# Altium footprint library PCB_Lib.PcbLib: 301 footprints (part 7 of 19)
Each footprint in its own frame and in the unit in brackets; x right, y up, seen from the top. Pads: shape width x height; smd on the part's side, far side on the other; paste and mask are expansions set on the pad; w line width, h text height; cw(c..) or ccw(c..) is an arc to the next point about the centre after c.
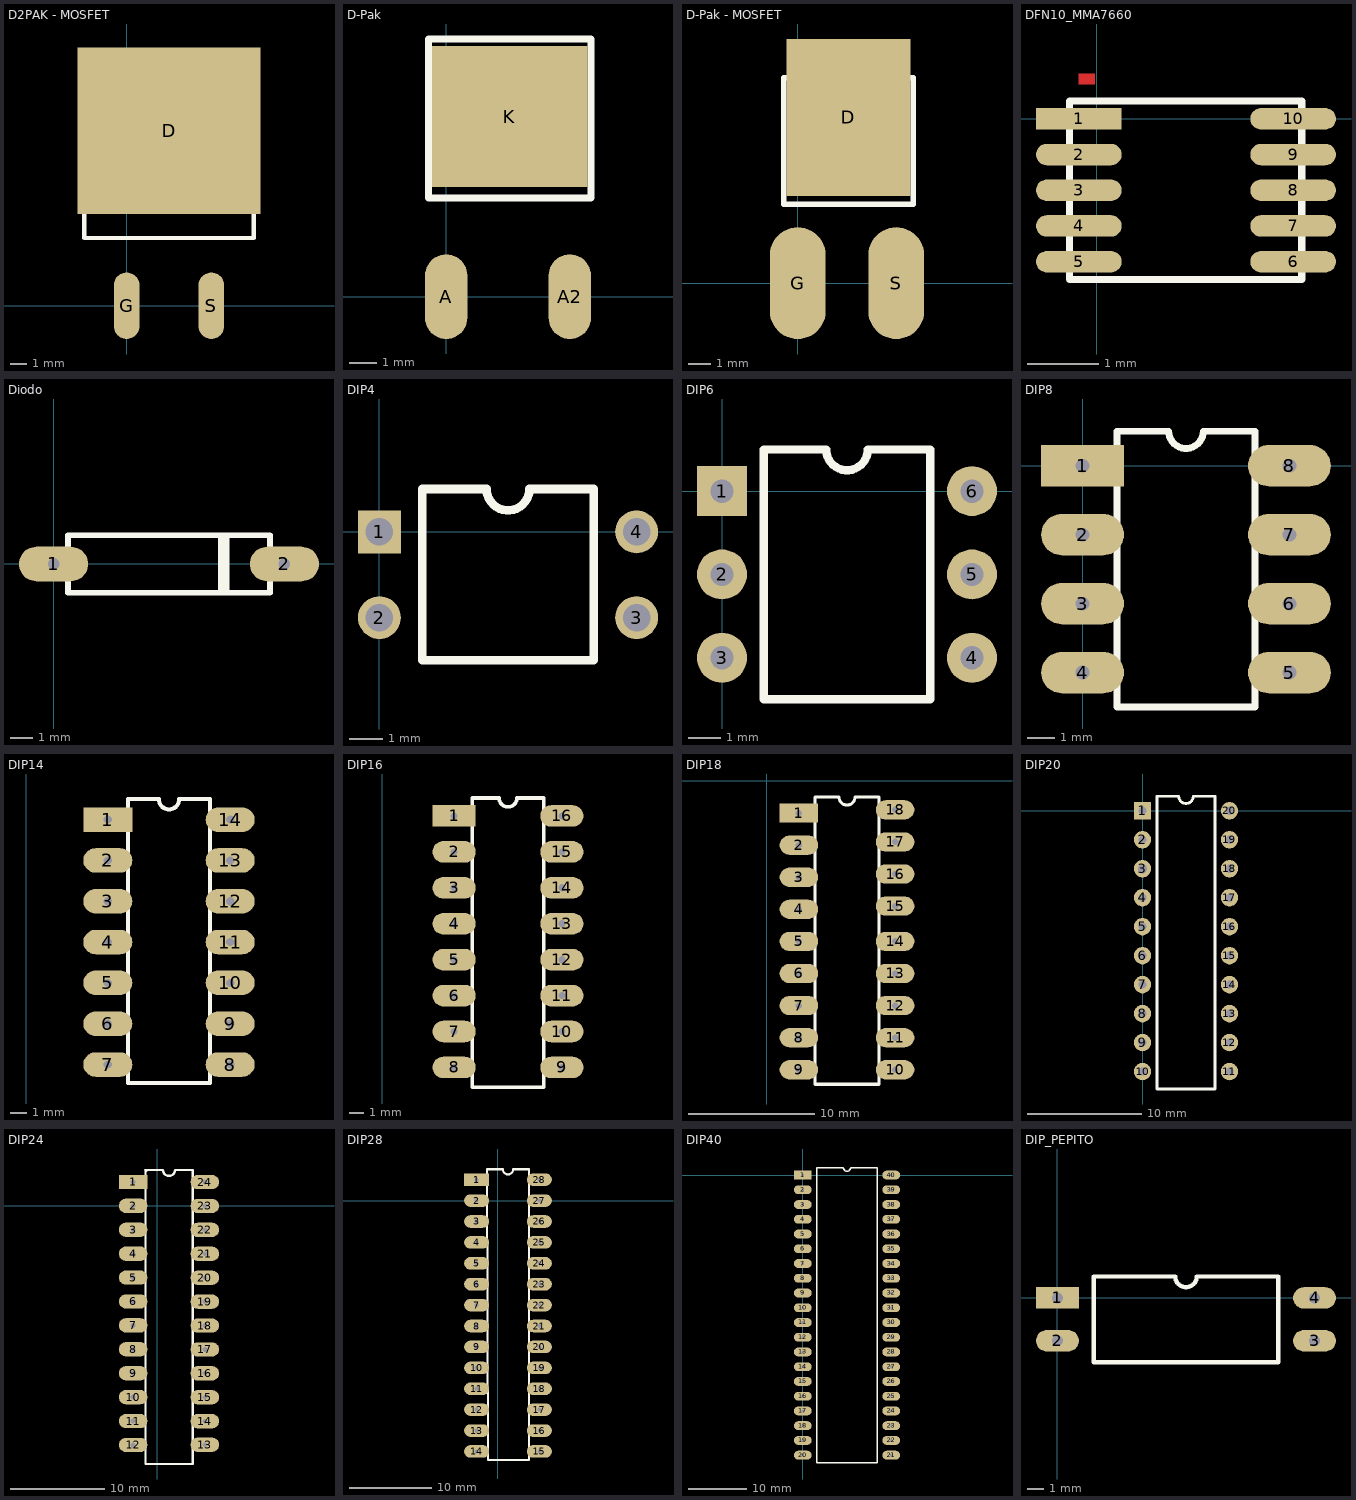
[diagram p6: the footprints below, top view; thin cyan lines are the x and y axes]

## D2PAK - MOSFET [mm] "TO220-superficie"
pads (3):
  rect 11x10 smd: D(2.54,10.5)
  oval 1.524x4 smd: G(0,0) S(5.08,0)
Top Overlay:
  lines w0.254: -2.54,4.064 7.62,4.064 7.62,13.081 -2.54,13.081 -2.54,4.064

## D-Pak [mil]
pads (3):
  oval 60x120 smd: A(0,0) A2(175,0)
  rect 220x200 smd: K(90,255)
Top Overlay:
  lines w10: -25,140 205,140 205,365 -25,365 -25,140

## D-Pak - MOSFET [mil]
pads (3):
  rect 220x278.74 smd: D(90,294.37)
  oval 99.37x198.74 smd: G(0,0) S(175,0)
Top Overlay:
  lines w10: -25,140 -25,365 205,365 205,140 -25,140

## DFN10_MMA7660 [mm]
pads (10):
  rect 1.2x0.3 smd: 1(-0.25,0)
  oval 1.2x0.3 smd: 2(-0.25,-0.5) 3(-0.25,-1) 4(-0.25,-1.5) 5(-0.25,-2) 6(2.75,-2) 7(2.75,-1.5) 8(2.75,-1) 9(2.75,-0.5) 10(2.75,0)
Top Layer:
  rectangle: -0.254,0.483 -0.025,0.635
Top Overlay:
  lines w0.1: 0.864,0.25 2.87,0.25 2.87,-2.25 -0.381,-2.25 -0.381,0.25 1.125,0.25

## Diodo [mil] "Diodo"
pads (2):
  oval 120x60 hole 20: 1(0,0) 2(400,0)
Top Overlay:
  lines w10: 290,-50 290,50 ; 300,-50 300,50 ; 25,-50 25,0 25,50 375,50 375,-50 25,-50

## DIP4 [mil]
pads (4):
  rect 50x50 hole 32: 1(0,0)
  round 50 hole 32: 2(0,-100) 3(300,-100) 4(300,0)
Top Overlay:
  lines w10: 50,-150 50,50 125,50 ccw(c150,50) 175,50 250,50 250,-150 50,-150

## DIP6 [mil]
pads (6):
  rect 60x60 hole 28: 1(0,0)
  round 60 hole 28: 2(0,-100) 3(0,-200) 4(300,-200) 5(300,-100) 6(300,0)
Top Overlay:
  lines w10: 50,-250 50,50 125,50 ccw(c150,50) 175,50 250,50 250,-250 50,-250

## DIP8 [mil] "CI 8"
pads (8):
  rect 120x60 hole 20: 1(0,0)
  oval 120x60 hole 20: 2(0,-100) 3(0,-200) 4(0,-300) 5(300,-300) 6(300,-200) 7(300,-100) 8(300,0)
Top Overlay:
  lines w10: 50,-350 50,50 125,50 ccw(c150,50) 175,50 250,50 250,-350 50,-350

## DIP14 [mil]
height 100
pads (14):
  rect 120x60 hole 20: 1(200,-200)
  oval 120x60 hole 20: 2(200,-300) 3(200,-400) 4(200,-500) 5(200,-600) 6(200,-700) 7(200,-800) 8(500,-800) 9(500,-700) 10(500,-600) 11(500,-500) 12(500,-400) 13(500,-300) 14(500,-200)
Top Overlay:
  lines w10: 250,-845 450,-845 450,-150 375,-150 cw(c350,-150) 325,-150 250,-150 250,-845

## DIP16 [mil]
height 100
pads (16):
  rect 120x60 hole 20: 1(200,-200)
  oval 120x60 hole 20: 2(200,-300) 3(200,-400) 4(200,-500) 5(200,-600) 6(200,-700) 7(200,-800) 8(200,-900) 9(500,-900) 10(500,-800) 11(500,-700) 12(500,-600) 13(500,-500) 14(500,-400) 15(500,-300) 16(500,-200)
Top Overlay:
  lines w10: 250,-955 450,-955 450,-150 375,-150 cw(c350,-150) 325,-150 250,-150 250,-955

## DIP18 [mil] "circioto integrado 18 pates"
pads (18):
  rect 120x60 hole 20: 1(100,-100)
  oval 120x60 hole 20: 2(100,-200) 3(100,-300) 4(100,-400) 5(100,-500) 6(100,-600) 7(100,-700) 8(100,-800) 9(100,-900) 10(400,-900) 11(400,-800) 12(400,-700) 13(400,-600) 14(400,-500) 15(400,-390) 16(400,-290) 17(400,-190) 18(400,-90)
Top Overlay:
  lines w10: 150,-945 150,-50 225,-50 ccw(c250,-50) 275,-50 350,-50 350,-945 150,-945

## DIP20 [mil]
pads (20):
  rect 60x60 hole 28: 1(0,0)
  round 60 hole 28: 2(0,-100) 4(0,-300) 5(0,-400) 6(0,-500) 7(0,-600) 8(0,-700) 9(0,-800) 10(0,-900) 11(300,-900) 12(300,-800) 13(300,-700) 14(300,-600) 15(300,-500) 16(300,-400) 17(300,-300) 18(300,-200) 19(300,-100) 20(300,0)
  round 60 hole 32: 3(0,-200)
Top Overlay:
  lines w10: 50,-960 250,-960 250,50 175,50 cw(c150,50) 125,50 50,50 50,-960

## DIP24 [mil]
height 100
pads (24):
  rect 120x60 hole 20: 1(-100,100)
  oval 120x60 hole 20: 2(-100,0) 3(-100,-100) 4(-100,-200) 5(-100,-300) 6(-100,-400) 7(-100,-500) 8(-100,-600) 9(-100,-700) 10(-100,-800) 11(-100,-900) 12(-100,-1000) 13(200,-999.02) 14(200,-900.59) 15(200,-800.59) 16(200,-700.59) 17(200,-600.59) 18(200,-500.59) 19(200,-400.59) 20(200,-300.59) 21(200,-200.59) 22(200,-100.59) 23(200,-0.59) 24(200,99.41)
Top Overlay:
  lines w10: -50,150 25,150 ccw(c50,150) 75,150 150,150 ; -41.34,150 -48.23,143.11 -48.23,-1079.72 150,-1079.72 ; 150,-1079.72 150,150 ; 150,-1079.72 150,150

## DIP28 [mil]
height 100
pads (28):
  rect 120x60 hole 20: 1(-100,100)
  oval 120x60 hole 20: 2(-100,0) 3(-100,-100) 4(-100,-200) 5(-100,-300) 6(-100,-400) 7(-100,-500) 8(-100,-600) 9(-100,-700) 10(-100,-800) 11(-100,-900) 12(-100,-1000) 13(-100,-1100) 14(-100,-1200) 15(200,-1200) 16(200,-1100) 17(200,-1000) 18(200,-900) 19(200,-800) 20(200,-700) 21(200,-600) 22(200,-500) 23(200,-400) 24(200,-300) 25(200,-200) 26(200,-100) 27(200,0) 28(200,100)
Top Overlay:
  lines w10: -50,150 -45,-1240 45,-1240 150,-1240 150,150 75,150 cw(c50,150) 25,150 -50,150

## DIP40 [mil]
pads (40):
  rect 120x60 hole 20: 1(0,0)
  oval 120x60 hole 20: 2(0,-100) 3(0,-200) 4(0,-300) 5(0,-400) 6(0,-500) 7(0,-600) 8(0,-700) 9(0,-800) 10(0,-900) 11(0,-1000) 12(0,-1100) 13(0,-1200) 14(0,-1300) 15(0,-1400) 16(0,-1500) 17(0,-1600) 18(0,-1700) 19(0,-1800) 20(0,-1900) 21(600,-1900) 22(600,-1800) 23(600,-1700) 24(600,-1600) 25(600,-1500) 26(600,-1400) 27(600,-1300) 28(600,-1200) 29(600,-1100) 30(600,-1000) 31(600,-900) 32(600,-800) 33(600,-700) 34(600,-600) 35(600,-500) 36(600,-400) 37(600,-300) 38(600,-200) 39(600,-100) 40(600,0)
Top Overlay:
  lines w10: 95,-1950 95,50 275,50 ccw(c300,50) 325,50 505,50 505,-1950 95,-1950

## DIP_PEPITO [mil]
pads (4):
  rect 100x50 hole 25: 1(0,0)
  oval 100x50 hole 25: 2(0,-100) 3(600,-100) 4(600,0)
Top Overlay:
  lines w10: 85,-150 85,50 275,50 ccw(c300,50) 325,50 515,50 515,-150 85,-150